# Altium schematic symbol library YNSchlib.SchLib: 21 symbols
Pins are listed as number, name and electrical type; pins without a type are passive.

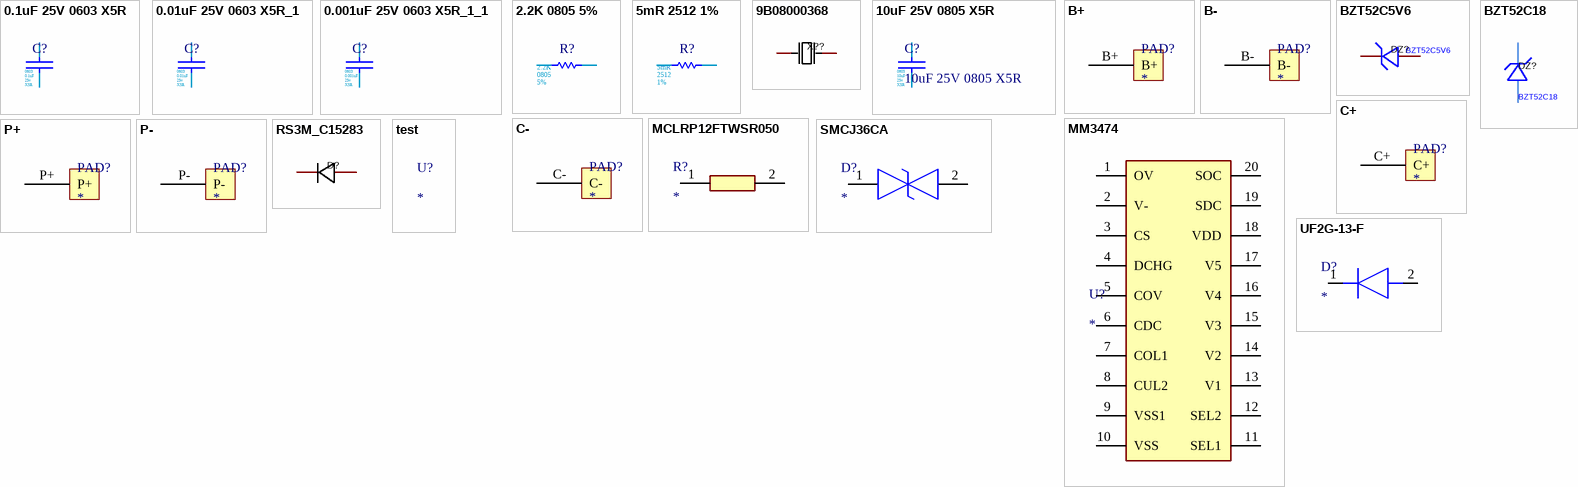
[diagram p0: symbols 0.1uF 25V 0603 X5R to UF2G-13-F]

## 0.1uF 25V 0603 X5R
designator C?  value 0.1uF  Rated Voltage: 25v  Footprint: 0603  材质: X5R  (hidden comment: 0.1uF 25V 0603 X5R)
贴片电容; 料号: 2150000000007; 选用: ALI; 精度: ±20%
footprint 0603ALI
pins: 1, 2

## 0.01uF 25V 0603 X5R_1
designator C?, comment value 0.01uF  Rated Voltage: 25v  Footprint: 0603  材质: X5R  (hidden comment: 0.01uF 25V 0603 X5R)
贴片电容; 料号: 2150000000007; 选用: ALI; 精度: ±20%
footprint 0603ALI
pins: 1, 2

## 0.001uF 25V 0603 X5R_1_1
designator C?, comment value 0.001uF  Rated Voltage: 25v  Footprint: 0603  材质: X5R  (hidden comment: 0.001uF 25V 0603 X5R)
贴片电容; 料号: 2150000000007; 选用: ALI; 精度: ±20%
footprint 0603ALI
pins: 1, 2

## 2.2K 0805 5%
designator R?  value 2.2K  Footprint: 0805  精度: 5%  (hidden comment: 2.2K 0805 5%)
贴片电阻; 选用: ALI
footprint 0805ALI
pins: 1, 2

## 5mR 2512 1%
designator R?  value 5mR  Footprint: 2512  精度: 1%  (hidden comment: 5mR 2512 1%)
贴片电阻; 选用: ALI; 料号: 2140000000024
footprint 2512ALI
pins: 1, 2

## 9B08000368
designator X??, comment 晶振  (value not drawn)
Manufacturer: TXC(晶技); Symbol: 9B0808LCSC-AAK2S; Device: 9B08000368; Add into BOM: yes; Name: -; LCSC Part Name: DIP  HC-49S 8M 20pF 30ppm 80R -10~60℃; Supplier Part: C93660; Manufacturer Part: 9B08000368; Supplier Footprint: HC-49S; JLCPCB Part Class: Extended Part; Datasheet: https://atta.szlcsc.com/upload/public/pdf/source/20170116/1484561276446.pdf; Supplier: LCSC; Convert to PCB: yes; Crystal Type: -; Value: -; Load Capacitance: -; Operating Temperature: -
footprint HC-49US_L11.5-W4.5-P4.88
3D model HC-49US_L11.0-W4.5-H3.5-P4.88
footprint HC-49US_L11.5-W4.5-P4.88
pins: 1 OSC1, 2 OSC2

## 10uF 25V 0805 X5R
designator C?  value 10uF  Rated Voltage: 25v  Footprint: 0805  材质: X5R
贴片电容; 料号: 2150000000007; 选用: ALI; 精度: ±20%
footprint 0805ALI
pins: 1, 2

## B+
designator PAD?
footprint Hole-14AWG_ALI; pin to pad B+>1
pins: B+

## B-
designator PAD?
footprint Hole-14AWG_ALI
pins: B-

## BZT52C5V6
designator DZ?
5.2V~6V 功率：350mW 5.6V 0.35W; Designer: DZ?; Device: BZT52C5V6; Symbol: BZT52C5V6
footprint SOD-123FL_L2.7-W1.8-LS3.8-RD
pins: 1 K, 2 A

## BZT52C18
designator DZ?
18V 稳压值(范围)：16.8V~19.1V 功率：350mW 18V 0.35W; Designer: U?; Device: BZT52C18; Symbol: BZT52C18
footprint SOD-123_L2.8-W1.8-LS3.7-RD
pins: 1 C, 2 A

## C+
designator PAD?
footprint Hole-14AWG_ALI
pins: C+

## C-
designator PAD?
footprint Hole-14AWG_ALI
pins: C-

## MCLRP12FTWSR050
designator R?
Resistor; Manufacturer_Name: MULTICOMP; Manufacturer_Part_Number: MCLRP12FTWSR050; Datasheet Link: https://componentsearchengine.com/Datasheets/2/MCLRP12FTWSR050.pdf; Height: 0.9mm
footprint RESC6432X90N
pins: 1, 2

## MM3474
designator U?
Integrated Circuit; Manufacturer_Name: Mitsumi Electric; Manufacturer_Part_Number: MM3474G05VBE; Datasheet Link: http://www.mitsumi.co.jp/latest/Catalog/pdf/battery_mm_3474.pdf; Height: 1.2mm
footprint SOP65P640X120-20N
pins: 1 OV, 2 V-, 3 CS, 4 DCHG, 5 COV, 6 CDC, 7 COL1, 8 CUL2, 9 VSS1, 10 VSS, 11 SEL1, 12 SEL2, 13 V1, 14 V2, 15 V3, 16 V4, 17 V5, 18 VDD, 19 SDC, 20 SOC

## P+
designator PAD?
footprint Hole-14AWG_ALI; pin to pad P+>1
pins: P+

## P-
designator PAD?
footprint Hole-14AWG_ALI; pin to pad P->1
pins: P-

## RS3M_C15283
designator D?  (value not drawn)
Designer: U?; Symbol: RS3M_C15283; Device: RS3M_C15283
footprint SMC_L7.1-W6.2-LS8.1-R-RD
pins: 1 A, 2 K

## SMCJ36CA
designator D?
TVS Diode (Bi-directional); Manufacturer_Name: LITTELFUSE; Manufacturer_Part_Number: SMCJ36CA; Datasheet Link: https://www.littelfuse.com/products/tvs-diodes/surface-mount/~/media/electronics/datasheets/tvs_diodes/littelfuse_tvs_diode_smcj_datasheet.pdf.pdf; Height: 2.62mm; Mouser Part Number: 576-SMCJ36CA; Mouser Price/Stock: https://www.mouser.co.uk/ProductDetail/Littelfuse/SMCJ36CA?qs=zHiv0nsVGmqDVrcTX3XJRw%3D%3D; Arrow Part Number: SMCJ36CA; Arrow Price/Stock: https://www.arrow.com/en/products/smcj36ca/littelfuse?region=nac
footprint DIONM7959X262N
pins: 1, 2

## test
designator U?

## UF2G-13-F
designator D?
Diode; Manufacturer_Name: Diodes Inc.; Manufacturer_Part_Number: UF2G-13-F; Datasheet Link: https://www.alldatasheet.com/view.jsp?Searchword=UF2G-13-F; Height: 2.4mm
footprint DIOM5226X240N
pins: 1 K, 2 A